# EAGLE library part MA08-2 (library con-lstb)
PIN HEADER
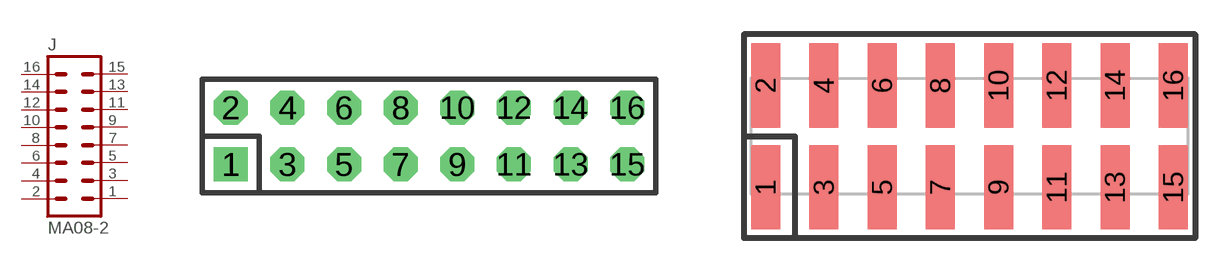
[diagram p2: symbol with the pads of MA08-2; footprints MA08-2, SMD-MA08-2]

Designator prefix J

## MA08-2  [MA08-2]
1  1  pas
2  2  pas
3  3  pas
4  4  pas
5  5  pas
6  6  pas
7  7  pas
8  8  pas
9  9  pas
10  10  pas
11  11  pas
12  12  pas
13  13  pas
14  14  pas
15  15  pas
16  16  pas

## MA08-2SMD  [SMD-MA08-2]
Pads as for MA08-2

## Footprint MA08-2 (pad centres in mm)
PIN HEADER
drill 1.016 square: 1 -8.89,-1.27
drill 1.016 octagon: 2 -8.89,1.27; 3 -6.35,-1.27; 4 -6.35,1.27; 5 -3.81,-1.27; 6 -3.81,1.27; 7 -1.27,-1.27; 8 -1.27,1.27; 9 1.27,-1.27; 10 1.27,1.27; 11 3.81,-1.27; 12 3.81,1.27; 13 6.35,-1.27; 14 6.35,1.27; 15 8.89,-1.27; 16 8.89,1.27

## Footprint SMD-MA08-2 (pad centres in mm)
SMD Dual Row, Vertical - 0.1" Sullins, G XCXXDABN-M30 Series
smd 1.27 x 3.68: 1 -8.89,-2.223; 2 -8.89,2.223; 3 -6.35,-2.223; 4 -6.35,2.223; 5 -3.81,-2.223; 6 -3.81,2.223; 7 -1.27,-2.223; 8 -1.27,2.223; 9 1.27,-2.223; 10 1.27,2.223; 11 3.81,-2.223; 12 3.81,2.223; 13 6.35,-2.223; 14 6.35,2.223; 15 8.89,-2.223; 16 8.89,2.223